# Altium footprint library Divers.PcbLib: 23 footprints (part 1 of 2)
Each footprint in its own frame and in the unit in brackets; x right, y up, seen from the top. Pads: shape width x height; smd on the part's side, far side on the other; paste and mask are expansions set on the pad; w line width, h text height; cw(c..) or ccw(c..) is an arc to the next point about the centre after c.
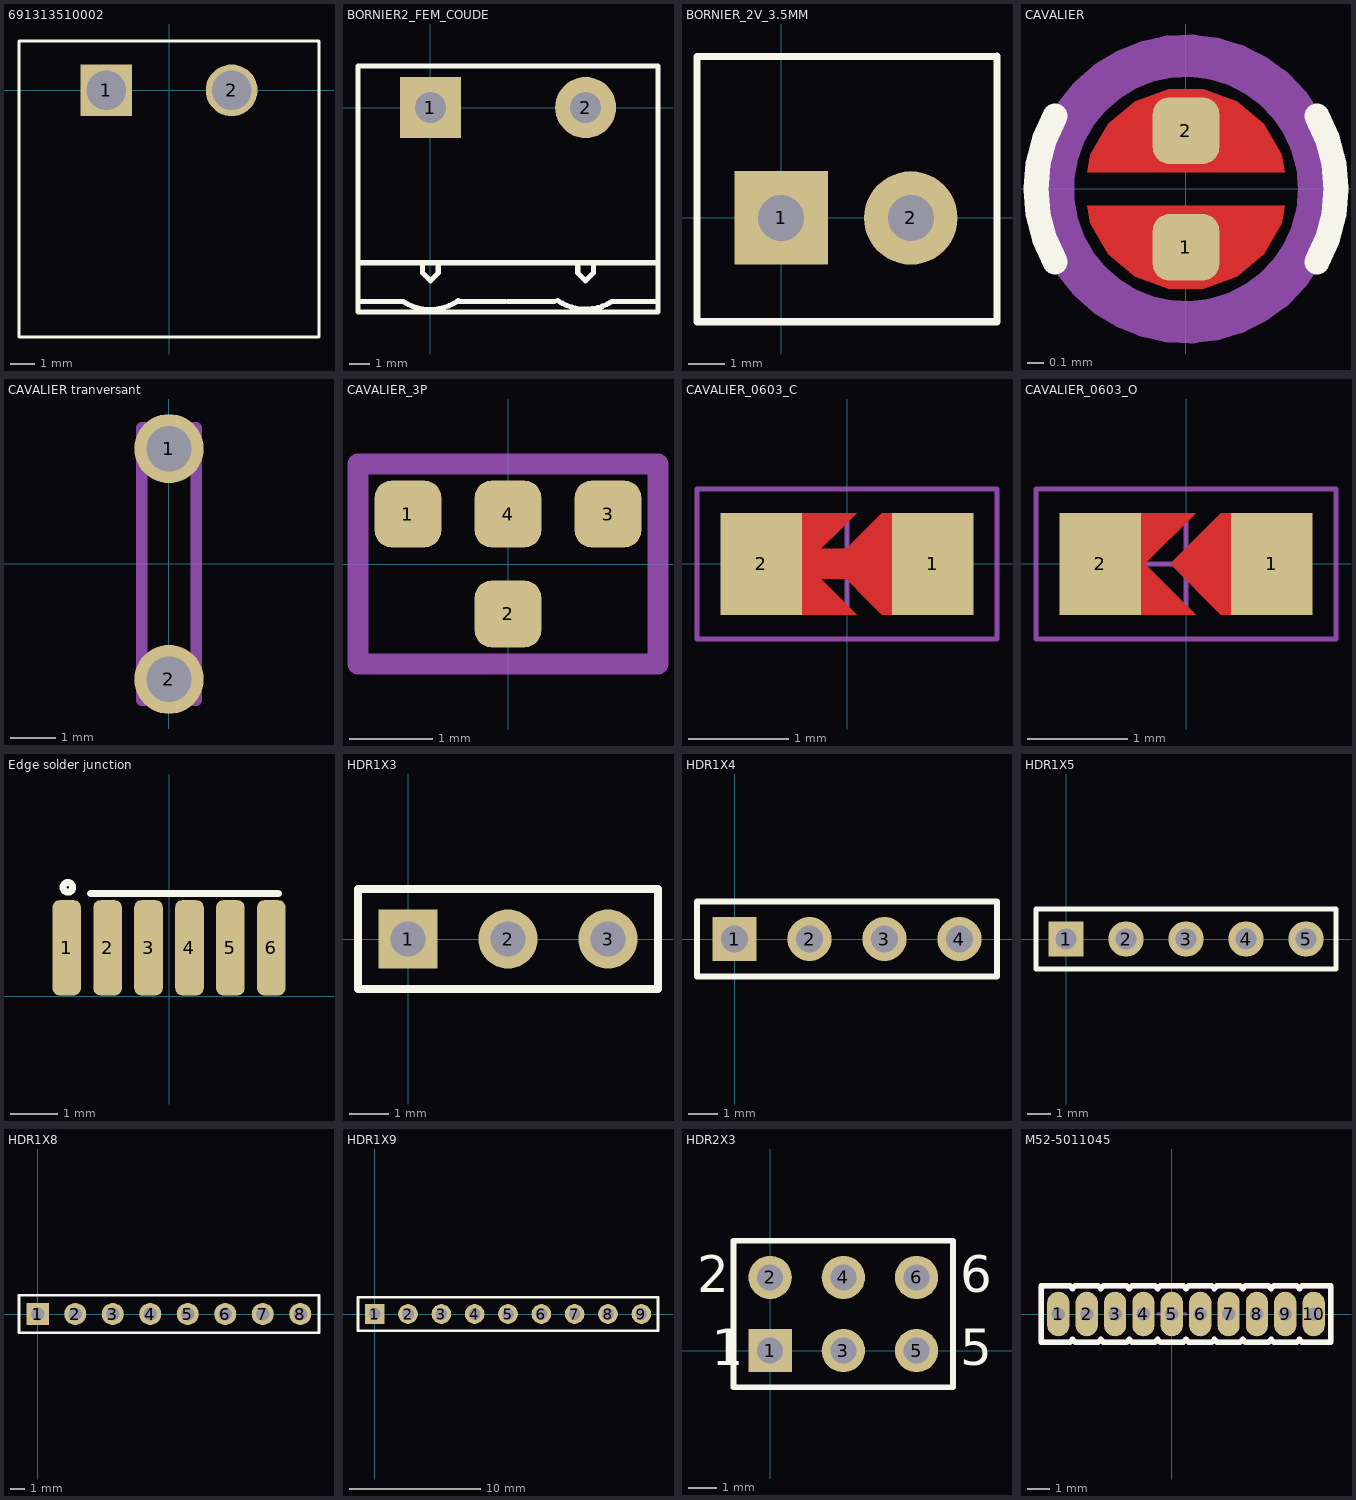
[diagram p0: the footprints below, top view; thin cyan lines are the x and y axes]

## 691313510002 [mm] "5,08mm - PCB Headers - Horizontal - Closed ends - 02p"
height 8.5
pads (2):
  rect 2.1x2.1 hole 1.6: 1(-2.54,0)
  round 2.1 hole 1.6: 2(2.54,0)
Top Overlay:
  lines w0.127: -6.08,-10 -6.08,2 6.08,2 6.08,-10 -6.08,-10
3D body "691313510002.stp": height 8.51, standoff -3.49, extent -6.08,-10 6.08,2

## BORNIER2_FEM_COUDE [mm] "Connector; Header; 2 Position; Right Angle; Female; Pin Spacing=5.08mm Green"
height 8.3
pads (2):
  rect 3x3 hole 1.524: 1(0,0)
  round 3 hole 1.524: 2(7.62,0)
Top Overlay:
  lines w0.254: -3.556,-7.62 8.636,-7.62 10.668,-7.62 11.176,-7.62 ; -3.429,-9.525 -1.323,-9.525 ; -1.323,-9.536 ccw(c-0.013,-7.493) 1.37,-9.486 ; -0.381,-7.62 -0.381,-8.128 0,-8.509 0.381,-8.128 0.381,-7.62 ; 1.397,-9.525 3.683,-9.525 ; 3.81,-9.525 6.096,-9.525 ; 6.253,-9.481 ccw(c7.62,-7.493) 8.899,-9.539 8.913,-9.525 10.668,-9.525 11.176,-9.525 ; 7.239,-7.62 7.239,-8.128 7.62,-8.509 8.001,-8.128 8.001,-7.62 ; -3.556,-10.033 8.636,-10.033 10.668,-10.033 11.176,-10.033 11.176,2.032 10.668,2.032 8.636,2.032 -3.556,2.032 -3.556,-10.033
3D body "PHOENIX_2V_7.62_MALE_COUDE.stp": height 8.45, standoff -4.05, extent -3.784,-10.038 11.456,1.962
3D body "PHOENIX_2V_7.62_FEMALE_691351400002.stp": height 15.2, standoff 0.1, extent -2.928,-19.877 10.312,-1.612

## BORNIER_2V_3.5MM [mm]
pads (2):
  rect 2.54x2.54 hole 1.25: 1(0,0)
  round 2.54 hole 1.25: 2(3.525,0)
Top Overlay:
  lines w0.2: -2.286,-2.819 -2.286,4.389 5.867,4.394 5.867,-2.819 -2.286,-2.819
3D body "WURTH_2V_male_3.5mm_691321100002.stp": height 9.2, standoff -3.5, extent -2.246,-2.787 5.854,4.413
3D body "WURTH_2V_3.5mm_691363110002.stp": height 21.81, standoff 2.51, extent -1.519,-5.08 5.481,5.32

## CAVALIER [mm] "Connection personnalisé pour bord de carte"
pads (2):
  rrect50% 0.4x0.4 smd: 1(0,-0.35) 2(0,0.35)
Top Layer:
  region: -0.591,0.102 0.591,0.102 0.573,0.206 0.468,0.39 0.305,0.527 0.106,0.6 -0.106,0.6 -0.305,0.527 -0.468,0.39 -0.573,0.206
  region: -0.591,-0.102 -0.573,-0.206 -0.468,-0.39 -0.305,-0.527 -0.106,-0.6 0.106,-0.6 0.305,-0.527 0.468,-0.39 0.573,-0.206 0.591,-0.102
Top Overlay:
  lines w0.15: -0.787,-0.437 cw(c0,0) -0.787,0.437 ; 0.787,-0.437 ccw(c0,0) 0.787,0.437
Top Solder:
  circle w0.254: c0,0 r0.6
  region: 0,-0.6 -0.119,-0.6 -0.34,-0.509 -0.509,-0.34 -0.6,-0.119 -0.6,0 -0.6,0.119 -0.509,0.34 -0.34,0.509 -0.119,0.6 0,0.6 0.119,0.6 0.34,0.509 0.509,0.34 0.6,0.119 0.6,0 0.6,-0.119 0.509,-0.34 0.34,-0.509 0.119,-0.6
Mechanical 13:
  circle w0.254: c0,0 r0.8
Mechanical 15:
  circle w0.254: c0,0 r0.8

## CAVALIER tranversant [mil] "Connection personnalisé pour bord de carte"
pads (2):
  round 60 hole 39.37: 1(0,100) 2(0,-100)
Mechanical 13:
  lines w10: -23.62,-118.11 23.62,-118.11 23.62,118.11 -23.62,118.11 -23.62,-118.11

## CAVALIER_3P [mm] "Connection personnalisé pour bord de carte"
pads (4):
  rrect50% 0.8x0.8 smd: 1(-1.2,0.6) 2(0,-0.6) 3(1.2,0.6) 4(0,0.6)
Mechanical 13:
  lines w0.254: -1.8,-1.2 1.8,-1.2 1.8,1.2 -1.8,1.2 -1.8,-1.2

## CAVALIER_0603_C [mil] "Jumper ferme"
pads (2):
  rect 32x40 smd: 1(33.75,0) 2(-33.75,0)
Top Layer:
  region: 23.75,20 13.75,20 -6.25,0 13.75,-20 23.75,-20
  region: 3.94,5.91 -19.68,5.91 -19.68,-5.91 3.94,-5.91
  region: -26.25,0 -16.25,0 3.75,20 -26.25,20
  region: -26.25,0 -16.25,0 3.75,-20 -26.25,-20
Top Paste:
  region: 23.75,20 13.75,20 -6.25,0 13.75,-20 23.75,-20
  region: -26.25,0 -16.25,0 3.75,20 -26.25,20
  region: -26.25,0 -16.25,0 3.75,-20 -26.25,-20
Top Solder:
  region: 23.75,24 13.75,24 -10.25,0 13.75,-24 23.75,-24
  region: -26.25,0 -12.25,0 11.75,-24 -26.25,-24
  region: -26.25,0 -12.25,0 11.75,24 -26.25,24
Mechanical 15:
  lines w1.97: -18.7,0 18.7,0 ; 0,-18.7 0,18.7 ; -59.06,-29.53 -59.06,29.53 59.06,29.53 59.06,-29.53 -59.06,-29.53

## CAVALIER_0603_O [mil] "Jumper ouvert"
pads (2):
  rect 32x40 smd: 1(33.75,0) 2(-33.75,0)
Top Layer:
  region: 23.75,20 13.75,20 -6.25,0 13.75,-20 23.75,-20
  region: -26.25,0 -16.25,0 3.75,20 -26.25,20
  region: -26.25,0 -16.25,0 3.75,-20 -26.25,-20
Top Paste:
  region: 23.75,20 13.75,20 -6.25,0 13.75,-20 23.75,-20
  region: -26.25,0 -16.25,0 3.75,20 -26.25,20
  region: -26.25,0 -16.25,0 3.75,-20 -26.25,-20
Top Solder:
  region: 23.75,24 13.75,24 -10.25,0 13.75,-24 23.75,-24
  region: -26.25,0 -12.25,0 11.75,24 -26.25,24
  region: -26.25,0 -12.25,0 11.75,-24 -26.25,-24
Mechanical 15:
  lines w1.97: -18.7,0 18.7,0 ; 0,-18.7 0,18.7 ; -59.06,-29.53 -59.06,29.53 59.06,29.53 59.06,-29.53 -59.06,-29.53

## Edge solder junction [mm] "Connection personnalisé pour bord de carte"
pads (6):
  rrect50% 0.6x2 smd: 1(-2.159,1.016) 2(-1.299,1.016) 3(-0.439,1.016) 4(0.421,1.016) 5(1.281,1.016) 6(2.141,1.016)
Top Overlay:
  circle w0.15: c-2.132,2.286 r0.1
  lines w0.15: -1.651,2.159 2.286,2.159

## HDR1X3 [mm]
pads (3):
  rect 1.5x1.5 hole 0.9: 1(0,0)
  round 1.5 hole 0.9: 2(2.54,0) 3(5.08,0)
Top Overlay:
  lines w0.2: -1.27,-1.27 6.35,-1.27 6.35,1.27 -1.27,1.27 -1.27,-1.27
3D body "1x3.step": height 10.1, standoff -1.5, extent -1.27,-1.27 6.35,1.27

## HDR1X4 [mm]
pads (4):
  rect 1.5x1.5 hole 0.9: 1(0,0)
  round 1.5 hole 0.9: 2(2.54,0) 3(5.08,0) 4(7.62,0)
Top Overlay:
  lines w0.2: -1.27,-1.27 8.89,-1.27 8.89,1.27 -1.27,1.27 -1.27,-1.27

## HDR1X5 [mm]
pads (5):
  rect 1.5x1.5 hole 0.9: 1(0,0)
  round 1.5 hole 0.9: 2(2.54,0) 3(5.08,0) 4(7.62,0) 5(10.16,0)
Top Overlay:
  lines w0.2: -1.27,-1.27 -1.27,1.27 11.43,1.27 11.43,-1.27 -1.27,-1.27

## HDR1X8 [mm]
pads (8):
  rect 1.5x1.5 hole 0.9: 1(0,0)
  round 1.5 hole 0.9: 2(2.54,0) 3(5.08,0) 4(7.62,0) 5(10.16,0) 6(12.7,0) 7(15.24,0) 8(17.78,0)
Top Overlay:
  lines w0.2: -1.27,-1.27 -1.27,1.27 19.05,1.27 19.05,-1.27 -1.27,-1.27

## HDR1X9 [mm]
pads (9):
  rect 1.5x1.5 hole 0.9: 1(0,0)
  round 1.5 hole 0.9: 2(2.54,0) 3(5.08,0) 4(7.62,0) 5(10.16,0) 6(12.7,0) 7(15.24,0) 8(17.78,0) 9(20.32,0)
Top Overlay:
  lines w0.2: -1.27,-1.27 -1.27,1.27 21.59,1.27 21.59,-1.27 -1.27,-1.27

## HDR2X3 [mm]
pads (6):
  rect 1.5x1.5 hole 0.9: 1(0,0)
  round 1.5 hole 0.9: 2(0,2.54) 3(2.54,0) 4(2.54,2.54) 5(5.08,0) 6(5.08,2.54)
Top Overlay:
  lines w0.2: 1.482,-1.27 6.35,-1.27 ; 6.35,-1.27 6.35,3.81 -1.27,3.81 -1.27,-1.27 6.35,-1.27
  text "6" at 6.604,2.032 h1.27
  text "5" at 6.604,-0.508 h1.27
  text "2" at -2.54,2.032 h1.27
  text "1" at -2.032,-0.508 h1.27

## M52-5011045 [mm]
pads (10):
  oval 1x2 hole 0.6: 1(-5.08,0) 2(-3.81,0) 3(-2.54,0) 4(-1.27,0) 5(0,0) 6(1.27,0) 7(2.54,0) 8(3.81,0) 9(5.08,0) 10(6.35,0)
Top Overlay:
  lines w0.254: -5.842,-1.27 -5.842,1.27 -4.572,1.27 -4.445,1.143 -4.318,1.27 -3.302,1.27 -3.175,1.143 -3.048,1.27 -2.032,1.27 -1.905,1.143 -1.778,1.27 -0.762,1.27 -0.635,1.143 -0.508,1.27 0.508,1.27 0.635,1.143 0.762,1.27 1.778,1.27 1.905,1.143 2.032,1.27 3.048,1.27 3.175,1.143 3.302,1.27 4.318,1.27 4.445,1.143 4.572,1.27 5.588,1.27 5.715,1.143 5.842,1.27 7.112,1.27 7.112,-1.27 5.842,-1.27 5.715,-1.143 5.588,-1.27 4.572,-1.27 4.445,-1.143 4.318,-1.27 3.302,-1.27 3.175,-1.143 3.048,-1.27 2.032,-1.27 1.905,-1.143 1.778,-1.27 0.762,-1.27 0.635,-1.143 0.508,-1.27 -0.508,-1.27 -0.635,-1.143 -0.762,-1.27 -1.778,-1.27 -1.905,-1.143 -2.032,-1.27 -3.048,-1.27 -3.175,-1.143 -3.302,-1.27 -4.318,-1.27 -4.445,-1.143 -4.572,-1.27 -5.842,-1.27
Mechanical 13:
  lines w0.254: -5.842,-1.143 -5.715,-1.27 -4.572,-1.27 -4.445,-1.143 -4.318,-1.27 -3.302,-1.27 -3.175,-1.143 -3.048,-1.27 -2.032,-1.27 -1.905,-1.143 -1.778,-1.27 -0.762,-1.27 -0.635,-1.143 -0.508,-1.27 0.508,-1.27 0.635,-1.143 0.762,-1.27 1.778,-1.27 1.905,-1.143 2.032,-1.27 3.048,-1.27 3.175,-1.143 3.302,-1.27 4.318,-1.27 4.445,-1.143 4.572,-1.27 5.588,-1.27 5.715,-1.143 5.842,-1.27 6.985,-1.27 7.112,-1.143 7.112,1.143 6.985,1.27 5.842,1.27 5.715,1.143 5.588,1.27 4.572,1.27 4.445,1.143 4.318,1.27 3.302,1.27 3.175,1.143 3.048,1.27 2.032,1.27 1.905,1.143 1.778,1.27 0.762,1.27 0.635,1.143 0.508,1.27 -0.508,1.27 -0.635,1.143 -0.762,1.27 -1.778,1.27 -1.905,1.143 -2.032,1.27 -3.048,1.27 -3.175,1.143 -3.302,1.27 -4.318,1.27 -4.445,1.143 -4.572,1.27 -5.715,1.27 -5.842,1.143 -5.842,-1.143
Mechanical 15:
  lines w0.127: -0.635,0 0.635,0 ; -5.842,-1.27 7.112,-1.27 7.112,1.27 -5.842,1.27 -5.842,-1.27
Mechanical 17:
  text ".Designator" at -5.842,1.524 h2
3D body: height 5, standoff 0, extent -5.842,-1.27 7.112,1.27